# Altium footprint library VRG8657.PcbLib: 1 footprints
Each footprint in its own frame and in the unit in brackets; x right, y up, seen from the top. Pads: shape width x height; smd on the part's side, far side on the other; paste and mask are expansions set on the pad; w line width, h text height; cw(c..) or ccw(c..) is an arc to the next point about the centre after c.
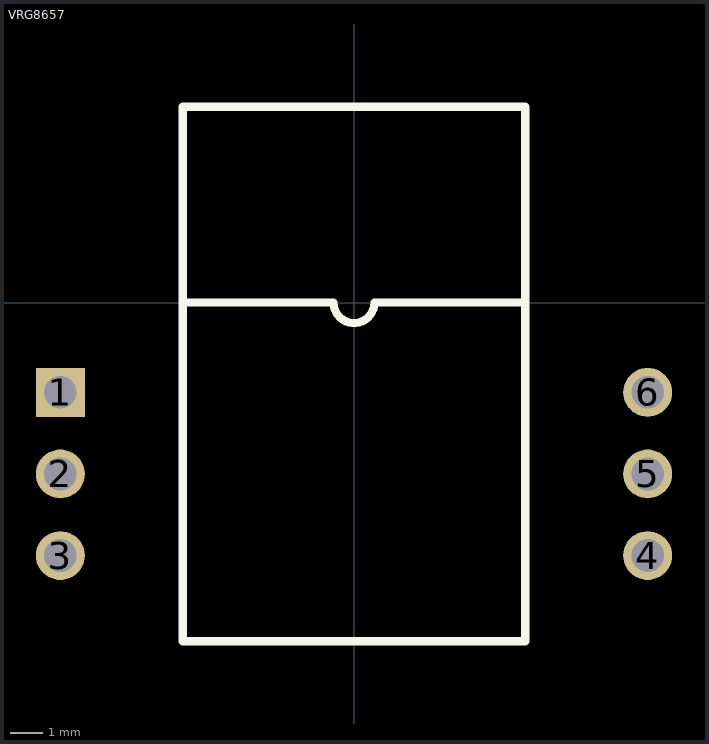
[diagram p0: the footprint, top view; thin cyan lines are the x and y axes]

## VRG8657 [mil]
pads (6):
  rect 60x60 hole 40: 1(-360,-110)
  round 60 hole 40: 2(-360,-210) 3(-360,-310) 4(360,-310) 5(360,-210) 6(360,-110)
Top Overlay:
  lines w10: -210,0 -210,240 210,240 210,0 ; -210,0 -210,-415 210,-415 210,0 ; -210,0 -25,0 ccw(c0,0) 25,0 210,0
3D body: height 180, standoff 40, extent -210,-415 210,0
3D body: height 40, standoff 0, extent -210,-415 210,240